# Altium footprint library valk.PcbLib: 28 footprints (part 2 of 2)
Each footprint in its own frame and in the unit in brackets; x right, y up, seen from the top. Pads: shape width x height; smd on the part's side, far side on the other; paste and mask are expansions set on the pad; w line width, h text height; cw(c..) or ccw(c..) is an arc to the next point about the centre after c.
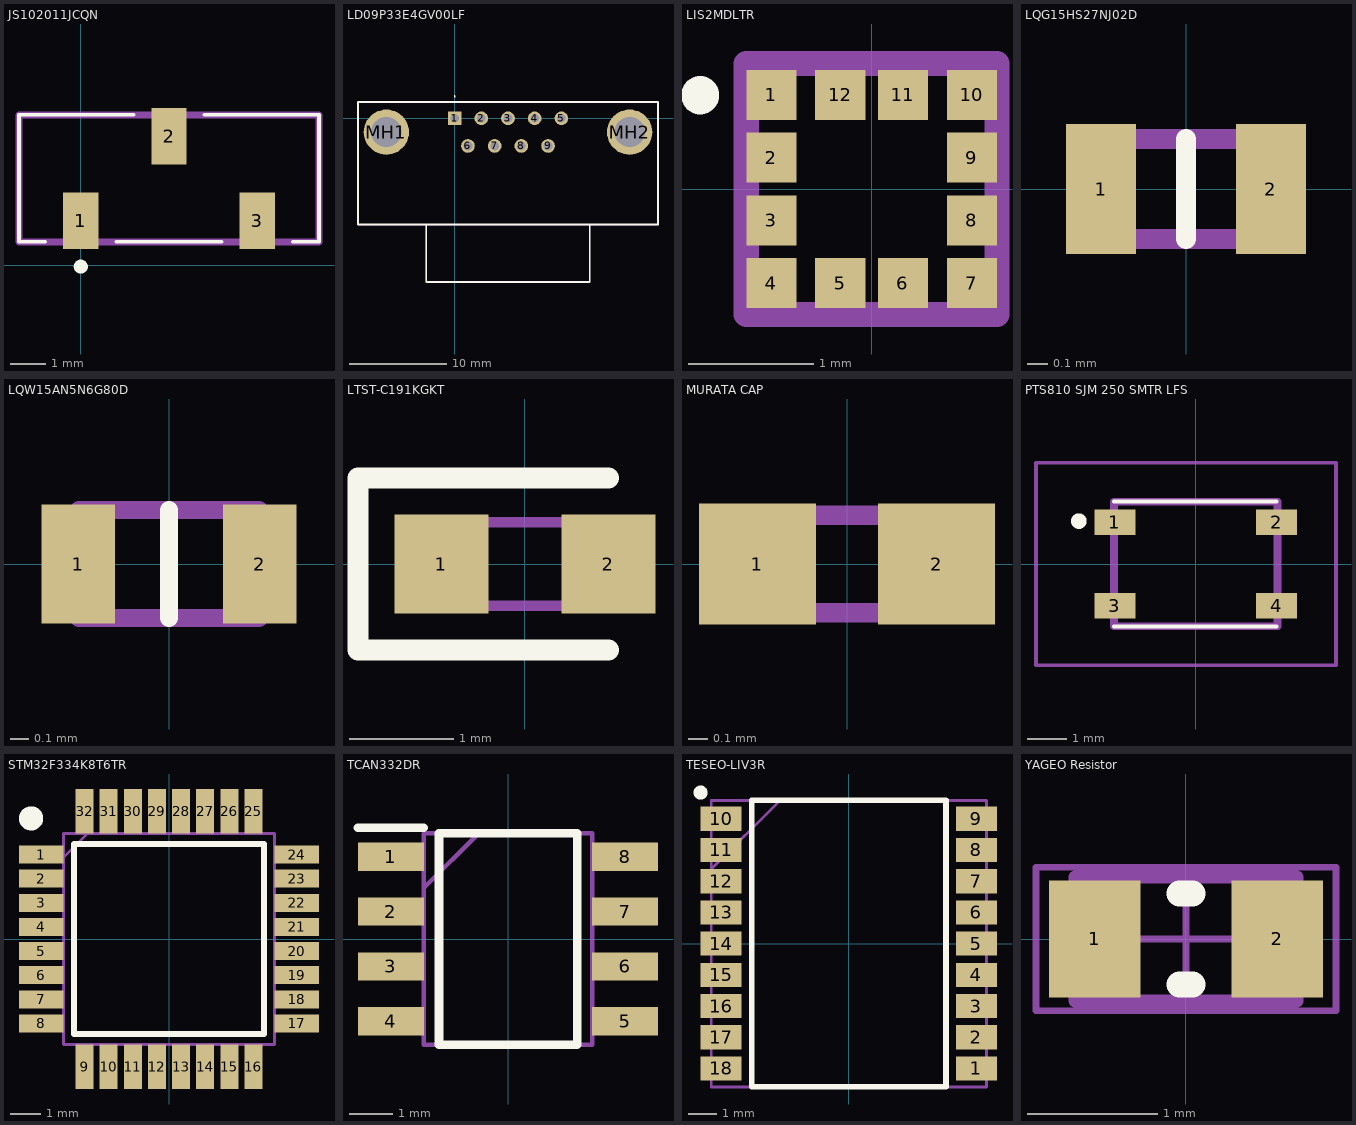
[diagram p1: the footprints below, top view; thin cyan lines are the x and y axes]

## JS102011JCQN [mm] "Slide Switch SPDT Surface Mount"
pads (3):
  rect 1x1.6 smd: 1(0,1.259) 2(2.5,3.659) 3(5,1.259)
Top Overlay:
  lines w0.1: -1,0.659 -1.75,0.659 -1.75,4.259 1.5,4.259 ; 1,0.659 4,0.659 ; 3.5,4.259 6.75,4.259 6.75,0.659 6,0.659
  lines w0.2: -0.1,-0.041 cw(c0,-0.041) 0.1,-0.041 cw(c0,-0.041) -0.1,-0.041
Mechanical 13:
  lines w0.2: -1.75,0.659 6.75,0.659 6.75,4.259 -1.75,4.259 -1.75,0.659
3D body "JS102011JCQN.stp": height 5.65, standoff 0, extent -1.75,0.409 6.75,4.509

## LD09P33E4GV00LF [mm] "9 Position D-Sub Plug, Male Pins Connector"
pads (11):
  rect 1.4x1.4 hole 0.9: 1(0,0)
  round 1.4 hole 0.9: 2(2.74,0) 3(5.48,0) 4(8.22,0) 5(10.96,0) 6(1.37,-2.84) 7(4.11,-2.84) 8(6.85,-2.84) 9(9.59,-2.84)
  round 4.65 hole 3.1: MH1(-7.015,-1.42) MH2(17.975,-1.42)
Top Overlay:
  lines w0.1: 0,2.2 ccw(c0,2.25) 0,2.3 ccw(c0,2.25) 0,2.2
  lines w0.2: -2.915,-10.92 -2.915,-16.82 13.875,-16.82 13.875,-10.92 ; -9.925,-10.92 20.885,-10.92 20.885,1.68 -9.925,1.68 -9.925,-10.92
Mechanical 15:
  lines w0.1: -2.915,-10.92 -2.915,-16.82 13.875,-16.82 13.875,-10.92 ; -9.925,-10.92 20.885,-10.92 20.885,1.68 -9.925,1.68 -9.925,-10.92
3D body "LD09P33E4GV00LF.stp": height 12.55, standoff -3.2, extent -9.905,-17.15 20.905,1.7

## LIS2MDLTR [mm] "Magnetoresistive Sensor X, Y, Z Axis 12-LGA (2x2)"
pads (12):
  rect 0.4x0.4 smd: 1(-0.8,0.75) 2(-0.8,0.25) 3(-0.8,-0.25) 4(-0.8,-0.75) 5(-0.25,-0.75) 6(0.25,-0.75) 7(0.8,-0.75) 8(0.8,-0.25) 9(0.8,0.25) 10(0.8,0.75) 11(0.25,0.75) 12(-0.25,0.75)
Top Overlay:
  circle w0.254: c-1.368,0.748 r0.025
Mechanical 13:
  lines w0.2: -1,-1 -1,1 1,1 1,-1 -1,-1
3D body "LIS2MDLTR.stp": height 1, standoff 0, extent -1,-1 1,1

## LQG15HS27NJ02D [mm] "27 nH Unshielded Multilayer Inductor 350 mA 460mOhm Max 0402 (1005 Metric)"
pads (2):
  rect 0.35x0.65 smd: 1(-0.425,0) 2(0.425,0)
Top Overlay:
  lines w0.1: 0,-0.25 0,0.25
Mechanical 15:
  lines w0.1: -0.5,-0.25 -0.5,0.25 0.5,0.25 0.5,-0.25 -0.5,-0.25
3D body "LQG15HS27NJ02D.stp": height 0.55, standoff 0, extent -0.5,-0.25 0.5,0.25

## LQW15AN5N6G80D [mm] "5.6 nH Unshielded Drum Core, Wirewound Inductor 1.77 A 40mOhm Max 0402 (1005 Metric)"
pads (2):
  rect 0.41x0.66 smd: 1(-0.505,0) 2(0.505,0)
Top Overlay:
  lines w0.1: 0,-0.3 0,0.3
Mechanical 15:
  lines w0.1: -0.5,-0.3 -0.5,0.3 0.5,0.3 0.5,-0.3 -0.5,-0.3
3D body "LQW15AN5N6G80D.stp": height 0.6, standoff 0, extent -0.5,-0.25 0.5,0.25

## LTST-C191KGKT [mm] "Green 571nm LED Indication - Discrete 2V 0603 (1608 Metric)"
pads (2):
  rect 0.9x0.95 smd: 1(-0.8,0) 2(0.8,0)
Top Overlay:
  lines w0.2: 0.8,-0.825 -1.6,-0.825 -1.6,0.825 0.8,0.825
Mechanical 15:
  lines w0.1: -0.8,0.133 -0.533,0.4 ; -0.8,-0.4 -0.8,0.4 0.8,0.4 0.8,-0.4 -0.8,-0.4
3D body "LTST-C191KGKT.stp": height 0.57, standoff 0.02, extent -0.8,-0.4 0.8,0.4

## MURATA CAP [mm] "Generic 0402 Capacitor"
pads (2):
  rect 0.6x0.62 smd: 1(-0.46,0) 2(0.46,0)
Mechanical 15:
  lines w0.1: -0.5,-0.25 0.5,-0.25 0.5,0.25 -0.5,0.25 -0.5,-0.25
3D body "GCM155R71H102KA37D.stp": height 0.55, standoff 0, extent -0.5,-0.25 0.5,0.25

## PTS810 SJM 250 SMTR LFS [mm] "Tactile Switch SPST-NO Top Actuated Surface Mount"
pads (4):
  rect 1.05x0.65 smd: 1(-2.075,1.075) 2(2.075,1.075) 3(-2.075,-1.075) 4(2.075,-1.075)
Top Overlay:
  lines w0.1: -2.1,-1.6 2.075,-1.6 ; -2.1,1.6 2.075,1.6
  lines w0.2: -3,1 cw(c-3,1.1) -3,1.2 cw(c-3,1.1) -3,1
Mechanical 13:
  lines w0.2: -2.1,-1.6 -2.1,1.6 2.1,1.6 2.1,-1.6 -2.1,-1.6
Mechanical 15:
  lines w0.1: -4.1,-2.6 -4.1,2.6 3.6,2.6 3.6,-2.6 -4.1,-2.6
3D body "PTS810 SJM 250 SMTR LFS--3DModel-STEP-56544.STEP": height 2.7, standoff 0, extent -2.3,-1.6 2.3,1.6

## STM32F334K8T6TR [mm] "ARM® Cortex®-M4 STM32F3 Microcontroller IC 32-Bit Single-Core 72MHz 64KB (64K x 8) FLASH 32-LQFP (7x7)"
pads (32):
  rect 1.475x0.6 smd: 1(-4.238,2.8) 2(-4.238,2) 3(-4.238,1.2) 4(-4.238,0.4) 5(-4.238,-0.4) 6(-4.238,-1.2) 7(-4.238,-2) 8(-4.238,-2.8) 17(4.238,-2.8) 18(4.238,-2) 19(4.238,-1.2) 20(4.238,-0.4) 21(4.238,0.4) 22(4.238,1.2) 23(4.238,2) 24(4.238,2.8)
  rect 0.6x1.475 smd: 9(-2.8,-4.238) 10(-2,-4.238) 11(-1.2,-4.238) 12(-0.4,-4.238) 13(0.4,-4.238) 14(1.2,-4.238) 15(2,-4.238) 16(2.8,-4.238) 25(2.8,4.238) 26(2,4.238) 27(1.2,4.238) 28(0.4,4.238) 29(-0.4,4.238) 30(-1.2,4.238) 31(-2,4.238) 32(-2.8,4.238)
Top Overlay:
  circle w0.4: c-4.575,4 r0.2
  lines w0.2: -3.15,-3.15 3.15,-3.15 3.15,3.15 -3.15,3.15 -3.15,-3.15
Mechanical 15:
  lines w0.1: -3.5,2.7 -2.7,3.5 ; -3.5,-3.5 3.5,-3.5 3.5,3.5 -3.5,3.5 -3.5,-3.5
3D body "STM32F334K8T6TR.stp": height 1.6, standoff 0, extent -4.5,-4.5 4.5,4.5

## TCAN332DR [mm] "1/1 Transceiver CANbus 8-SOIC"
pads (8):
  rect 1.525x0.65 smd: 1(-2.712,1.905) 2(-2.712,0.635) 3(-2.712,-0.635) 4(-2.712,-1.905) 5(2.712,-1.905) 6(2.712,-0.635) 7(2.712,0.635) 8(2.712,1.905)
Top Overlay:
  lines w0.2: -3.475,2.58 -1.95,2.58 ; -1.6,-2.45 -1.6,2.45 1.6,2.45 1.6,-2.45 -1.6,-2.45
Mechanical 15:
  lines w0.1: -1.95,1.18 -0.68,2.45 ; -1.95,-2.45 -1.95,2.45 1.95,2.45 1.95,-2.45 -1.95,-2.45
3D body "TCAN332DR.stp": height 1.63, standoff 0, extent -3.011,-2.451 3.011,2.451

## TESEO-LIV3R [mm] "RF Receiver BeiDou, GLONASS, GNSS, GPS 1.561GHz, 1.575MHz -163dBm Not Included 18-LCC (9.7x10.1)"
pads (18):
  rect 1.45x0.85 smd: 1(4.5,-4.4) 2(4.5,-3.3) 3(4.5,-2.2) 4(4.5,-1.1) 5(4.5,0) 6(4.5,1.1) 7(4.5,2.2) 8(4.5,3.3) 9(4.5,4.4) 10(-4.5,4.4) 11(-4.5,3.3) 12(-4.5,2.2) 13(-4.5,1.1) 14(-4.5,0) 15(-4.5,-1.1) 16(-4.5,-2.2) 17(-4.5,-3.3) 18(-4.5,-4.4)
Top Overlay:
  circle w0.25: c-5.225,5.325 r0.125
  lines w0.2: -3.425,-5.05 -3.425,5.05 3.425,5.05 3.425,-5.05 -3.425,-5.05
Mechanical 15:
  lines w0.1: -4.85,2.625 -2.425,5.05 ; -4.85,-5.05 -4.85,5.05 4.85,5.05 4.85,-5.05 -4.85,-5.05
3D body "TESEO-LIV3F.stp": height 2.3, standoff 0, extent -4.9,-5.05 4.9,5.05

## YAGEO Resistor [mm] "Generic 0402 Resistor"
pads (2):
  rect 0.7x0.9 smd: 1(-0.7,0) 2(0.7,0)
Top Overlay:
  lines w0.2: -0.05,-0.35 0.05,-0.35 ; -0.05,0.35 0.05,0.35
Mechanical 13:
  lines w0.1: -0.85,-0.475 0.85,-0.475 0.85,0.475 -0.85,0.475 -0.85,-0.475
Mechanical 15:
  lines w0.05: -0.475,0 0.475,0 ; 0,-0.475 0,0.475 ; -1.15,-0.55 1.15,-0.55 1.15,0.55 -1.15,0.55 -1.15,-0.55
3D body: height 0.6, standoff 0, extent -0.849,-0.474 -0.58,0.475
3D body: height 0.6, standoff 0, extent -0.58,-0.474 0.581,0.475
3D body: height 0.6, standoff 0, extent 0.581,-0.474 0.85,0.475